# Altium footprint library WE-TPC_6823.PcbLib: 1 footprints
Each footprint in its own frame and in the unit in brackets; x right, y up, seen from the top. Pads: shape width x height; smd on the part's side, far side on the other; paste and mask are expansions set on the pad; w line width, h text height; cw(c..) or ccw(c..) is an arc to the next point about the centre after c.
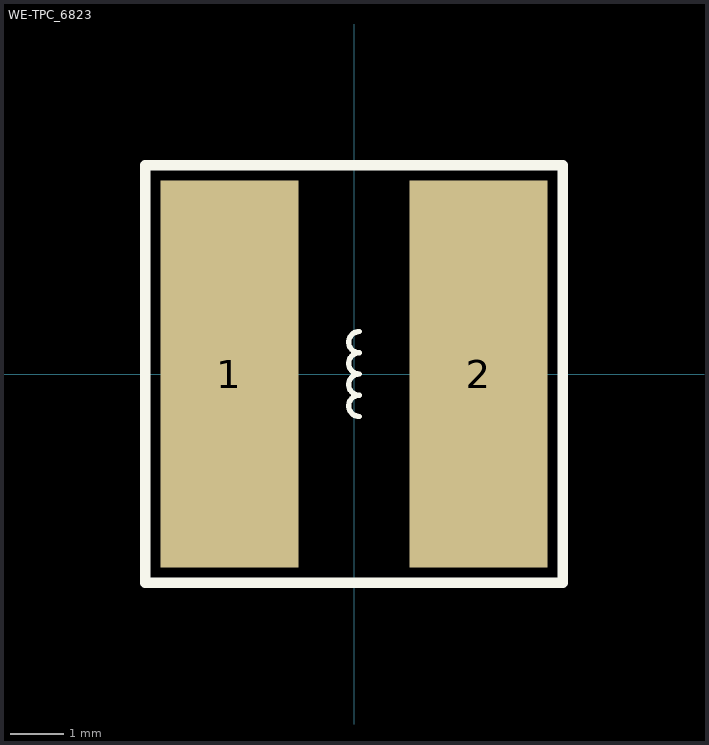
[diagram p0: the footprint, top view; thin cyan lines are the x and y axes]

## WE-TPC_6823 [mm]
pads (2):
  rect 2.6x7.3 smd: 1(-2.35,0) 2(2.35,0)
Top Overlay:
  lines w0.1: 0.1,-0.8 cw(c0.1,-0.6) 0.1,-0.4 cw(c0.1,-0.2) 0.1,0 cw(c0.1,0.2) 0.1,0.4 cw(c0.1,0.6) 0.1,0.8
  lines w0.2: -3.937,-3.937 3.937,-3.937 3.937,3.937 3.81,3.937 -3.937,3.937 -3.937,-3.937
3D body: height 2.3, standoff 0, extent -3.4,-3.4 3.4,3.4